# EAGLE library part SAMTEC-10 (library SAMTEC-10)
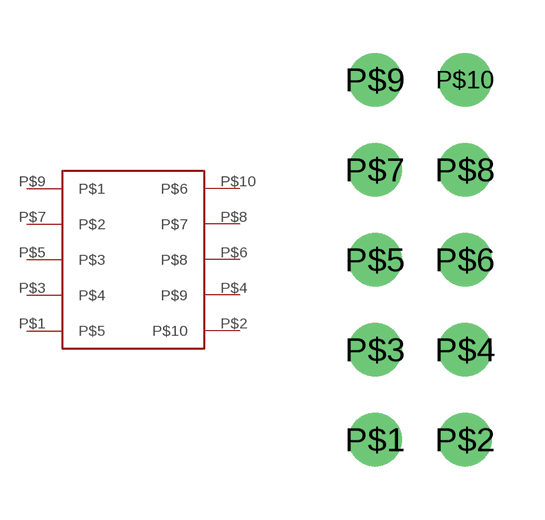
[diagram p0: symbol with the pads of POWER-CONNECTOR; footprint POWER-CONNECTOR]

Designator prefix -

## SAMTEC-10  [POWER-CONNECTOR]
P$1  P$5
P$2  P$10
P$3  P$4
P$4  P$9
P$5  P$3
P$6  P$8
P$7  P$2
P$8  P$7
P$9  P$1
P$10  P$6

## Footprint POWER-CONNECTOR (pad centres in mm)
drill 1: P$1 -1.27,-5.08; P$2 1.27,-5.08; P$3 -1.27,-2.54; P$4 1.27,-2.54; P$5 -1.27,0; P$6 1.27,0; P$7 -1.27,2.54; P$8 1.27,2.54; P$9 -1.27,5.08; P$10 1.27,5.08